# Altium schematic symbol library KE_PDB - Copy.SCHLIB: 24 symbols
Pins are listed as number, name and electrical type; pins without a type are passive.

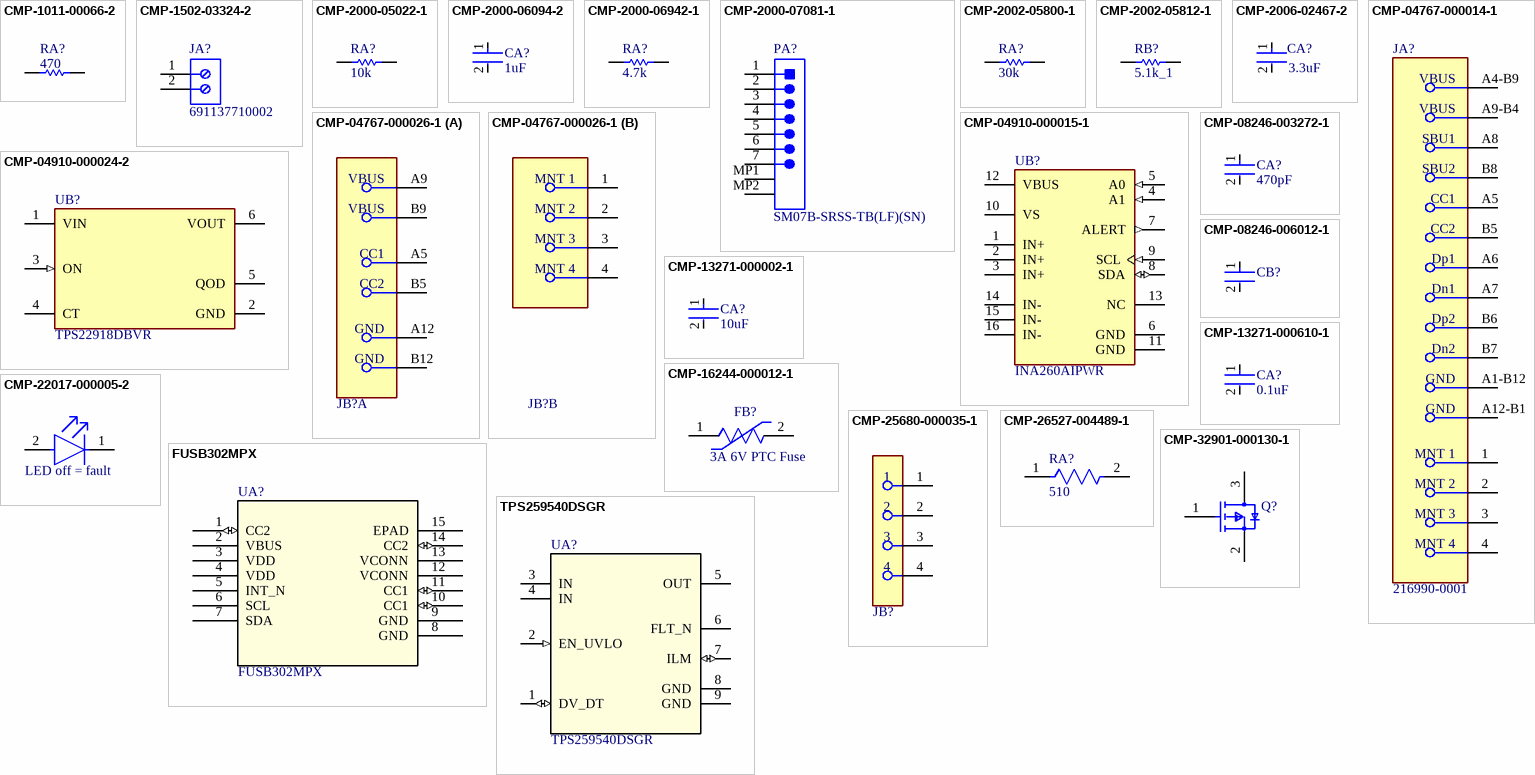
[diagram p0: symbols CMP-1011-00066-2 to TPS259540DSGR]

## CMP-1011-00066-2
designator RA?, comment 470
Part Number: RC0402JR-07470RL; Manufacturer: Yageo / Phycomp
footprint RESC1005X40X25LL05T10 (Chip Resistor, 2-Leads, Body 1.00x0.50mm, IPC High Density)
footprint RESC1005X40X25NL05T10 (Chip Resistor, 2-Leads, Body 1.00x0.50mm, IPC Medium Density)
footprint RESC1005X40X25ML05T10 (Chip Resistor, 2-Leads, Body 1.00x0.50mm, IPC Low Density)
simulation model R_Resistor_Default
pins: 1, 2
1 alternate drawing of the same symbol

## CMP-1502-03324-2
designator JA?, comment 691137710002
NexarPartId: 78871135; Voltage Rating: 300V; Number of Contacts: 2; Current Rating: 16A; Lead Pitch: 5mm; Height: 11.6mm; Packaging: Box; RoHS: Non-Compliant; Contact Material: Nickel, Tin; Max Operating Temperature: 120°C; Number of Pins: 2; Min Operating Temperature: -30°C; Number of Rows: 1
footprint 691137710002 (Series 1377 - 5.00 mm Horizontal Entry with Pressure Clamp WR-TBL, 2 pin)
pins: 1, 2

## CMP-2000-05022-1
designator RA?, comment 10k
Resistor, 10 KOhm, +/- 5%, 100 mW, -55 to 155 degC, 0603 (1608 Metric), RoHS, Tape and Reel; Manufacturer: Yageo; Resistance: 10kOhms; Voltage Rating: 50V; Temperature Coefficient: 100PPM/C; Power Rating: 100mW; Value: 10kOhms; Package Reference: 603; Series: RC; Case Code - mm: 1608; Packaging: Reel; Datasheet URL: http://www.farnell.com/datasheets/443971.pdf; Datasheet Version: Rev. 4, 04/2009; Operating Temperature Range: -55Cto+155C; Product: ThickFilmResistorsGeneralPurpose; Package Description: 2-Pin Surface Mount Device, Body 1.6 x 0.8 mm; Manufacturer URL: http://www.yageo.com/; Case Code - in: 0603; Tolerance: 5%; Termination Style: SMD/SMT
footprint RESC1608X55X25ML10T15 (Chip Resistor, 2-Leads, Body 1.60x0.80mm, IPC Low Density)
footprint RESC1608X55X25NL10T15 (Chip Resistor, 2-Leads, Body 1.70x0.90mm, IPC Medium Density)
footprint RESC1608X55X25LL10T15 (Chip Resistor, 2-Leads, Body 1.60x0.80mm, IPC High Density)
simulation model R_Resistor_Default
pins: 1, 2

## CMP-2000-06094-2
designator CA?, comment 1uF
Cap Ceramic 1uF 10V X7R ±10% Pad SMD 0603 +125°C T/R; Packaging: Tape and Reel; Depth: 0.8mm; Voltage Rating: 10V; Lead Free: Lead Free; Radiation Hardening: No; Capacitance: 1uF; Length: 1.6mm; Package Quantity: 1; Mount: Surface Mount; Case/Package: 0603; Max Operating Temperature: 125°C; Case Code (Metric): 1608; Height: 0.8mm; Min Operating Temperature: -55°C; Dielectric: X7R; Contact Plating: Tin; Case Code (Imperial): 0603; Thickness: 0.035inch; Voltage Rating (DC): 10V; Tolerance: 10%; Width: 0.031inch; Value: 1uF
footprint FP-CL10-IPC_C
footprint FP-CL10-IPC_A
footprint FP-CL10-IPC_B
simulation model C_Capacitor_Default
pins: 1, 2

## CMP-2000-06942-1
designator RA?, comment 4.7k
Chip Resistor, 4.7 KOhm, +/- 1%, 0.1 W, -55 to 155 degC, 0603 (1608 Metric), RoHS, Tape and Reel; Manufacturer: Yageo; Power Rating: 100mW; Temperature Coefficient: 100PPM/C; Resistance: 4.7kOhms; Voltage Rating: 50V; Value: 4.7kOhms; Package Reference: 0603; Series: RC; Datasheet Version: Rev. 7, 05/2017; Packaging: Reel; Termination Style: SMD/SMT; Datasheet URL: http://www.yageo.com/documents/recent/PYu-RC_Group_51_RoHS_L_7.pdf; Manufacturer URL: http://www.yageo.com/; Package Description: 2-Pin Surface Mount Device, Body 1.6 x 0.8 mm; Case Code - mm: 1608; Case Code - in: 0603; Mounting Technology: SurfaceMount; Operating Temperature Range: -55Cto+155C; Tolerance: 1%; Product: ThickFilmResistorsGeneralPurpose
footprint RESC1608X55X25LL10T15 (Chip Resistor, 2-Leads, Body 1.60x0.80mm, IPC High Density)
footprint RESC1608X55X25ML10T15 (Chip Resistor, 2-Leads, Body 1.70x0.90mm, IPC Low Density)
footprint RESC1608X55X25NL10T15 (Chip Resistor, 2-Leads, Body 1.70x0.90mm, IPC Medium Density)
simulation model R_Resistor_Default
pins: 1, 2

## CMP-2000-07081-1
designator PA?, comment SM07B-SRSS-TB(LF)(SN)
Male Header, Pitch1 mm, 1 x 7 Position, Height 2.95 mm, -25 to 85 degC, RoHS, Tape and Reel; Manufacturer: JST; No of Positions: 7; Style/Orientation: RightAngleHeader/Plug; Pitch: 1mm; Type: ShroudedHeader; Mounting Technology: SurfaceMount; Datasheet URL: http://www.jst-mfg.com/product/pdf/eng/eSH.pdf; Termination: Crimp; Datasheet Version: 05/2016; Package Reference: SM07B-SRSS-TB; Manufacturer URL: http://www.jst.com/home2.html; Package Description: Male Header, Pitch1 mm, 1 x 7 Position, Height 2.95 mm
footprint JST-SM07B-SRSS-TB_V (SMD, 7-Leads, Body 9x4.25mm, Pitch 1mm)
pins: 1, 2, 3, 4, 5, 6, 7, MP1, MP2

## CMP-2002-05800-1
designator RA?, comment 30k
Manufacturer: Panasonic; Part Number: ERA-2AEB303X
footprint RESC1005X40X25ML10T10 (Chip Resistor, 2-Leads, Body 1.00x0.50mm, IPC Low Density)
footprint RESC1005X40X25NL10T10 (Chip Resistor, 2-Leads, Body 1.00x0.50mm, IPC Medium Density)
footprint RESC1005X40X25LL10T10 (Chip Resistor, 2-Leads, Body 1.00x0.50mm, IPC High Density)
pins: 1, 2
1 alternate drawing of the same symbol

## CMP-2002-05812-1
designator RB?, comment 5.1k_1
ERA-2AEB512X; Manufacturer: Panasonic; Part Number: ERA-2AEB512X
footprint RESC1005X40X25NL10T10 (Chip Resistor, 2-Leads, Body 1.00x0.50mm, IPC Medium Density)
footprint RESC1005X40X25ML10T10 (Chip Resistor, 2-Leads, Body 1.00x0.50mm, IPC Low Density)
footprint RESC1005X40X25LL10T10 (Chip Resistor, 2-Leads, Body 1.00x0.50mm, IPC High Density)
simulation model R_Resistor_Default
pins: 1, 2
1 alternate drawing of the same symbol

## CMP-2006-02467-2
designator CA?, comment 3.3uF
Chip Multilayer Ceramic Capacitors for General Purpose, 0603, 3300pF, C0G, 30ppm/°C, 5%, 50V; Capacitance: 3.3nF; Value: 3.3nF; Max Operating Temperature: 125°C; Voltage Rating (DC): 50V; Termination: SMD/SMT; Packaging: Tape and Reel; Tolerance: 5%; Lead Free: Lead Free; Width: 0.031inch; Thickness: 0.035inch; REACH SVHC: No SVHC; Dielectric: C0G; Min Operating Temperature: -55°C; Material: Ceramic; Voltage Rating: 50V; Case/Package: 0603; Length: 1.6mm; Voltage: 50V; Case Code (Imperial): 0603; Radiation Hardening: No; Case Code (Metric): 1608; Mount: Surface Mount; Height: 0.8mm; Package Quantity: 4000; Depth: 0.8mm
footprint FP-GRM188-0_1-e0_2_0_5-IPC_A
footprint FP-GRM188-0_1-e0_2_0_5-MFG
footprint FP-GRM188-0_1-e0_2_0_5-IPC_B
footprint FP-GRM188-0_1-e0_2_0_5-IPC_C
simulation model C_Capacitor_Default
pins: 1, 2

## CMP-04767-000014-1
designator JA?, comment 216990-0001
CONN RCP USB2.0 TYP C 24P SMD RA
footprint FP-216990-0001-MFG
pins: 1 MNT 1, 2 MNT 2, 3 MNT 3, 4 MNT 4, A1-B12 GND, A4-B9 VBUS, A5 CC1, A6 Dp1, A7 Dn1, A8 SBU1, A9-B4 VBUS, A12-B1 GND, B5 CC2, B6 Dp2, B7 Dn2, B8 SBU2

## CMP-04767-000026-1
designator JB?, comment 217175-0001  (value not drawn)
CONN RCP USB2.0 C 6+18P SMD RA
footprint FP-217175-0001-MFG
part A pins: A5 CC1, A9 VBUS (power), A12 GND (power), B5 CC2, B9 VBUS (power), B12 GND (power)
part B pins: 1 MNT 1, 2 MNT 2, 3 MNT 3, 4 MNT 4

## CMP-04910-000015-1
designator UB?, comment INA260AIPWR
IC MONITOR PWR/CURR 16TSSOP; Manufacturer: Texas Instruments; Nominal Supply Current: 310uA; Max Junction Temp: +150°C; Standoff Height: 0.05mm; Max Supply Voltage: 5.5V; Min Supply Voltage: 2.7V; Output Current: 10mA; Ambient Temperature Range High: +125°C; ComponentLink2Description: Datasheet; Manufacturer Part Number: INA260AIPWR; Automotive: No; RoHS: TRUE; Lead Free: Yes; Package: PW0016A; Device Class L2: Power Management ICs; Temperature Range Low: -40°C; Digikey Description: IC MONITOR PWR/CURR 16TSSOP; Height: 1.2mm; Temperature: -40°C to +125°C; Device Class L1: Integrated Circuits (ICs); Device Class L3: unset; Octopart: https://octopart.com/ina260aipwr-texas+instruments-75199489; Category: IC; Ambient Temperature Range Low: -40°C; Temperature Range High: +125°C; ComponentLink2URL: http://www.ti.com/lit/ds/symlink/ina260.pdf
footprint FP-PW0016A-MFG
footprint FP-PW0016A-IPC_C
footprint FP-PW0016A-IPC_B
footprint FP-PW0016A-IPC_A
pins: 1 IN+, 2 IN+, 3 IN+, 4 A1 (in), 5 A0 (in), 6 GND (power), 7 ALERT (out), 8 SDA (io), 9 SCL (in), 10 VS, 11 GND (power), 12 VBUS, 13 NC, 14 IN-, 15 IN-, 16 IN-

## CMP-04910-000024-2
designator UB?, comment TPS22918DBVR
IC SINGLE CHANNEL LOAD SWITCH; NexarPartId: 71360943; Manufacturer Lifecycle Status: ACTIVE; Fall Time: 2µs; Max Junction Temperature (Tj): 125°C; Number of Channels: 1; Output Current: 2A; Max Supply Voltage: 5.5V; Output Configuration: High Side; Min Supply Voltage: 1V; Interface: On/Off; Rise Time: 2.54ms; Turn-On Delay Time: 1.95ms; Lead Free: Lead Free; RoHS: Compliant; Ambient Temperature Range High: 105°C; Thickness: 1.2mm; Width: 1.6mm; Lifecycle Status: Production; Case/Package: SOT-23; Schedule B: 8542390000, 8542390000; Turn-Off Delay Time: 2µs; Max Output Current: 2A; Number of Outputs: 1; Number of Pins: 6; Height: 1.45mm; Number of Drivers: 1; Length: 2.9mm; Max Operating Temperature: 105°C; Min Operating Temperature: -40°C
footprint FP-DBV0006A-MFG (650-nA quiescent current, 12-ppm/°C drift, ultra-low-power precision voltage reference 6-SOT-23 -40 to 125)
footprint FP-DBV0006A-IPC_A (650-nA quiescent current, 12-ppm/°C drift, ultra-low-power precision voltage reference 6-SOT-23 -40 to 125)
footprint FP-DBV0006A-IPC_B (650-nA quiescent current, 12-ppm/°C drift, ultra-low-power precision voltage reference 6-SOT-23 -40 to 125)
footprint FP-DBV0006A-IPC_C (650-nA quiescent current, 12-ppm/°C drift, ultra-low-power precision voltage reference 6-SOT-23 -40 to 125)
pins: 1 VIN (power), 2 GND (power), 3 ON (in), 4 CT, 5 QOD, 6 VOUT

## CMP-08246-003272-1
designator CA?, comment 470pF
Multilayer Ceramic Capacitors 470pF ±5% 630V C0G SMD 1206; Max Operating Temperature: 125°C; Voltage Rating (DC): 630V; Capacitance: 470pF; Lead Free: Lead Free; Depth: 1.6mm; Series: C; RoHS Compliant: Yes; Radiation Hardening: No; Width: 0.063inch; Weight: 0.000571oz; Case Code (Metric): 3216; Mount: Surface Mount; Length: 3.2mm; Dielectric: C0G; Case/Package: 1206; Thickness: 0.039inch; Height: 0.85mm; Packaging: Tape and Reel; Number of Pins: 2; Case Code (Imperial): 1206; Termination: SMD/SMT; Package Quantity: 1; Min Operating Temperature: -55°C; Voltage Rating: 630V; Tolerance: 5%; Value: 470pF
footprint FP-C3216-085-0_2-IPC_C
footprint FP-C3216-085-0_2-IPC_B
footprint FP-C3216-085-0_2-MFG
footprint FP-C3216-085-0_2-IPC_A
simulation model C_Capacitor_Default
pins: 1, 2

## CMP-08246-006012-1
designator CB?, comment C3225X5R1E106M250AA  (value not drawn)
Multilayer Ceramic Capacitors 10uF ±20% 25V X5R SMD 1210; RoHS Compliant: Yes; Max Operating Temperature: 85°C; Voltage Rating: 25V; Height: 2.5mm; Capacitance: 10uF; Dielectric: X5R; Min Operating Temperature: -55°C; Mount: Surface Mount; Package Quantity: 1; Case/Package: 1210; Thickness: 0.11inch; Resistor Type: Ceramic; Series: C; Voltage: 25V; Number of Pins: 2; Lead Free: Lead Free; Depth: 2.5mm; Construction: Flat; Packaging: Tape and Reel; Tolerance: 20%; Weight: 0.000564oz; Dielectric Material: Ceramic; Voltage Rating (DC): 25V; Radiation Hardening: No; Case Code (Imperial): 1210; Width: 0.098inch; REACH SVHC: No SVHC; Length: 3.2mm; Termination: SMD/SMT; Case Code (Metric): 3225
footprint FP-C3225-250-0_4-MFG
footprint FP-C3225-250-0_4-IPC_B
footprint FP-C3225-250-0_4-IPC_A
footprint FP-C3225-250-0_4-IPC_C
pins: 1, 2

## CMP-13271-000002-1
designator CA?, comment 10uF
CAP CER 10UF 10V X5R 0402; Manufacturer Part Number: CL05A106MP5NUNC; Manufacturer: Samsung; Temperature Coefficient: 15%; Tolerance: 20%; Octopart: https://octopart.com/cl05a106mp5nunc-samsung-22457395; Voltage Rating: 10V; RoHS: TRUE; Value: 10uF; Height: 0.7mm; Digikey Description: CAP CER 10UF 10V X5R 0402; Automotive: No; Package: CL05A106MP5NUNC; Device Class L1: Passive Components; Capacitance: 10uF; Temperature Range High: +85°C; ComponentLink2Description: Datasheet; Device Class L2: Capacitors; Temperature Characteristic: X5R; Temperature: -55°C to +85°C; Material: Ceramic; ComponentLink2URL: http://www.samsungsem.com/kr/support/product-search/mlcc/__icsFiles/afieldfile/2019/05/10/19-CL05A106MP5NUNC.pdf; Device Class L3: Ceramic Capacitors; Category: Cap; Temperature Range Low: -55°C; Ipc Land Pattern Name: CAPC10050X50; Lead Free: Yes
footprint FP-CL05A106MP5NUNC-MFG
footprint FP-CL05A106MP5NUNC-IPC_C
footprint FP-CL05A106MP5NUNC-IPC_B
footprint FP-CL05A106MP5NUNC-IPC_A
simulation model C_Capacitor_Default
pins: 1, 2

## CMP-13271-000610-1
designator CA?, comment 0.1uF
Cap Ceramic 100nF 10V X7R ±10% SMD 0402 +125°C Paper T/R
footprint FP-CL93-IPC_C
footprint FP-CL93-IPC_B
footprint FP-CL93-IPC_A
simulation model C_Capacitor_Default
pins: 1, 2

## CMP-16244-000012-1
designator FB?, comment 3A 6V PTC Fuse
PTC RESET FUSE 3A 6V 0603
footprint FP-PTSLR06036V300-MFG
pins: 1, 2

## CMP-22017-000005-2
designator DA?, comment LED off = fault
LED GREEN CLEAR CHIP SMD; Dominant Wavelength: 569nm; Reverse Voltage: 5V; Lens Color: Colorless; Viewing Angle: 130°; Voltage: 2V; Forward Current: 30mA; Power Dissipation: 100mW; Luminous Intensity: 6mcd; Number of LEDs: 1; Forward Voltage: 2.1V; Wavelength: 565nm; Test Current: 10mA; Min Operating Temperature: -55°C; Lens Style: Clear; Mount: Surface Mount; Width: 0.8mm; Packaging: Tape and Reel; Lens Transparency: Clear; Case Code (Metric): 1608; Depth: 0.8mm; Case Code (Imperial): 0603; Case/Package: 0603; Number of Pins: 2; Max Operating Temperature: 85°C; Lead Free: Lead Free; Number of Elements: 1; Length: 1.6mm; Height: 0.8mm; Package Quantity: 1; Power Rating: 100mW; Radiation Hardening: No; Illumination Color: Green; Color: Green
footprint FP-LTST-C190GKT-MFG
pins: 1 C, 2 A

## CMP-25680-000035-1
designator JB?, comment LPPB041NFFN-RC  (value not drawn)
CONN HDR 4POS 0.05 GOLD PCB; Pitch: 0.05inch; Number of Positions: 4; Connector Type: Header; Contact Type: Female Socket; Lead Free: Lead Free; Mount: Through Hole; RoHS Compliant: Yes; Package Quantity: 1; Termination: Solder; Contact Plating: Gold; Number of Rows: 1; Packaging: Bulk
footprint FP-LPPB041NFFN-RC-MFG
pins: 1, 2, 3, 4

## CMP-26527-004489-1
designator RA?, comment 510
510Ω ±5% 0.125W 0805 Thick Film Chip Resistor AEC-Q200 compliant; Max Power Dissipation: 125mW; Temperature Coefficient: 200ppm/°C; Resistance: 510R; Value: 510R; Construction: Rectangular; Packaging: Tape and Reel; Case Code (Imperial): 0805; Features: Automotive AEC-Q200; Mount: Surface Mount; Resistor Type: Thick Film; Min Operating Temperature: -55°C; Lead Free: Lead Free; Contact Plating: Tin; Width: 0.049inch; Depth: 1.25mm; Length: 0.079inch; Radiation Hardening: No; Size Code: 0805; Series: RMCF; Case Code (Metric): 2012; Number of Terminations: 2; Case/Package: 0805; RoHS Compliant: Yes; Max Operating Temperature: 155°C; Tolerance: 5%; Military Standard: Not; Height: 0.026inch; Power Rating: 125mW
footprint FP-RMCF0805-MFG
footprint FP-RMCF0805-IPC_A
footprint FP-RMCF0805-IPC_C
footprint FP-RMCF0805-IPC_B
simulation model R_Resistor_Default
pins: 1, 2

## CMP-32901-000130-1
designator Q?, comment IRLML6402TRPBF  (value not drawn)
MOSFET P-CH 20V 3.7A SOT-23; Manufacturer: Infineon; Reverse Recovery Time: 29ns; Max Forward Diode Voltage: -1.2V; Input Capacitace At Vds: 633pF @ -10V; Drain To Source Resistance: 0.05Ω; Gate To Source Voltage: 12V; Max Junction Temp: +150°C; Pulse Drain Current: -22A; Threshold Vgs Min: -0.4V; Turn Off Delay Time: 588ns; Number Of Channels: 1; Power Dissipation: 1.3W; Turn On Delay Time: 350ns; Drain To Source Breakdown Voltage: -20V; Continuous Drain Current: -3.7A; Depletion Mode: False; Gate Charge At Vgs: 8nC @ -5V; Rthja Max: 75°C/W; Threshold Vgs: -0.55V; Standoff Height: 0.01mm; Reverse Recovery Charge: 11nC; Device Class L2: Transistors; Ipc Land Pattern Name: SOT95P237X100-3; Temperature Range High: +150°C; Octopart: https://octopart.com/irlml6402trpbf-infineon-65874989; ComponentLink2URL: https://www.infineon.com/dgdl/irlml6402pbf.pdf?fileId=5546d462533600a401535668d5c2263c; Automotive: No; Manufacturer Part Number: IRLML6402TRPBF; Height: 1.12mm; Drain To Source Voltage: -20V; Digikey Description: MOSFET P-CH 20V 3.7A SOT-23; Device Class L1: Discrete Semiconductors; Package: Micro3; Lead Free: Yes; Temperature Range Low: -55°C; Number Of P Channels: 1; Technology: MOSFET; Temperature: -55°C to +150°C; Category: Trans; Footprint Url: http://irf.com/package/outline/po_micro3.pdf; RoHS: TRUE; Device Class L3: MOSFETs; Threshold Vgs Max: -1.2V; ComponentLink2Description: Datasheet
footprint FP-Micro3-MFG
footprint FP-Micro3-IPC_C
footprint FP-Micro3-IPC_B
footprint FP-Micro3-IPC_A
pins: 1 G, 2 S, 3 D

## FUSB302MPX
designator UA?
No Description Available; Mfr_Name: onsemi; RefDes: RefDes; Type: Type
footprint MLP14_2P5X2P5_ONS
pins: 1 CC2 (io), 2 VBUS, 3 VDD (power), 4 VDD (power), 5 INT_N, 6 SCL, 7 SDA, 8 GND (power), 9 GND (power), 10 CC1 (io), 11 CC1 (io), 12 VCONN, 13 VCONN, 14 CC2 (io), 15 EPAD

## TPS259540DSGR
designator UA?
No Description Available; Mfr_Name: Texas Instruments; TYPE: TYPE; RefDes: RefDes
footprint DSG0008A
pins: 1 DV_DT (io), 2 EN_UVLO (in), 3 IN (power), 4 IN (power), 5 OUT (power), 6 FLT_N (oc), 7 ILM (io), 8 GND (power), 9 GND (power)